# Altium schematic symbol library SCH - MCU - ATMEGA - MICROCHIP ATXMEGA16D4-AN TQFP44.SchLib: 1 symbol
Pins are listed as number, name and electrical type; pins without a type are passive.

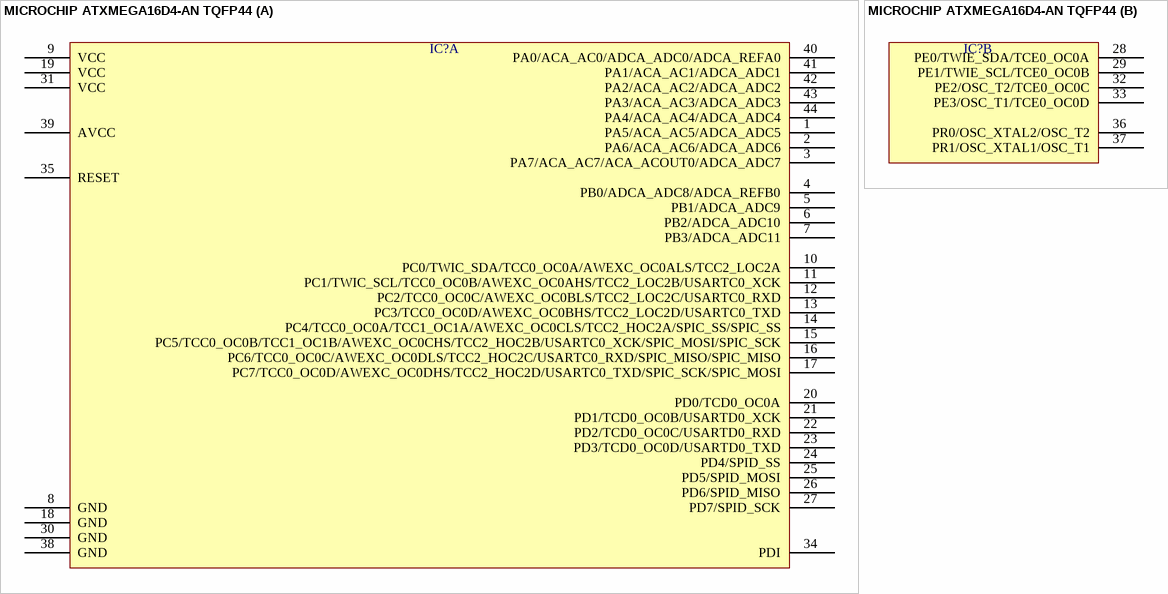
[diagram p0: symbol MICROCHIP ATXMEGA16D4-AN TQFP44]

## MICROCHIP ATXMEGA16D4-AN TQFP44
designator IC?  (value not drawn)
part A pins: 1 PA5/ACA_AC5/ADCA_ADC5, 2 PA6/ACA_AC6/ADCA_ADC6, 3 PA7/ACA_AC7/ACA_ACOUT0/ADCA_ADC7, 4 PB0/ADCA_ADC8/ADCA_REFB0, 5 PB1/ADCA_ADC9, 6 PB2/ADCA_ADC10, 7 PB3/ADCA_ADC11, 8 GND, 9 VCC, 10 PC0/TWIC_SDA/TCC0_OC0A/AWEXC_OC0ALS/TCC2_LOC2A, 11 PC1/TWIC_SCL/TCC0_OC0B/AWEXC_OC0AHS/TCC2_LOC2B/USARTC0_XCK, 12 PC2/TCC0_OC0C/AWEXC_OC0BLS/TCC2_LOC2C/USARTC0_RXD, 13 PC3/TCC0_OC0D/AWEXC_OC0BHS/TCC2_LOC2D/USARTC0_TXD, 14 PC4/TCC0_OC0A/TCC1_OC1A/AWEXC_OC0CLS/TCC2_HOC2A/SPIC_SS/SPIC_SS, 15 PC5/TCC0_OC0B/TCC1_OC1B/AWEXC_OC0CHS/TCC2_HOC2B/USARTC0_XCK/SPIC_MOSI/SPIC_SCK, 16 PC6/TCC0_OC0C/AWEXC_OC0DLS/TCC2_HOC2C/USARTC0_RXD/SPIC_MISO/SPIC_MISO, 17 PC7/TCC0_OC0D/AWEXC_OC0DHS/TCC2_HOC2D/USARTC0_TXD/SPIC_SCK/SPIC_MOSI, 18 GND, 19 VCC, 20 PD0/TCD0_OC0A, 21 PD1/TCD0_OC0B/USARTD0_XCK, 22 PD2/TCD0_OC0C/USARTD0_RXD, 23 PD3/TCD0_OC0D/USARTD0_TXD, 24 PD4/SPID_SS, 25 PD5/SPID_MOSI, 26 PD6/SPID_MISO, 27 PD7/SPID_SCK, 30 GND, 31 VCC, 34 PDI, 35 RESET, 38 GND, 39 AVCC, 40 PA0/ACA_AC0/ADCA_ADC0/ADCA_REFA0, 41 PA1/ACA_AC1/ADCA_ADC1, 42 PA2/ACA_AC2/ADCA_ADC2, 43 PA3/ACA_AC3/ADCA_ADC3, 44 PA4/ACA_AC4/ADCA_ADC4
part B pins: 28 PE0/TWIE_SDA/TCE0_OC0A, 29 PE1/TWIE_SCL/TCE0_OC0B, 32 PE2/OSC_T2/TCE0_OC0C, 33 PE3/OSC_T1/TCE0_OC0D, 36 PR0/OSC_XTAL2/OSC_T2, 37 PR1/OSC_XTAL1/OSC_T1